# Altium footprint library Footprints.PcbLib: 25 footprints (part 2 of 2)
Each footprint in its own frame and in the unit in brackets; x right, y up, seen from the top. Pads: shape width x height; smd on the part's side, far side on the other; paste and mask are expansions set on the pad; w line width, h text height; cw(c..) or ccw(c..) is an arc to the next point about the centre after c.
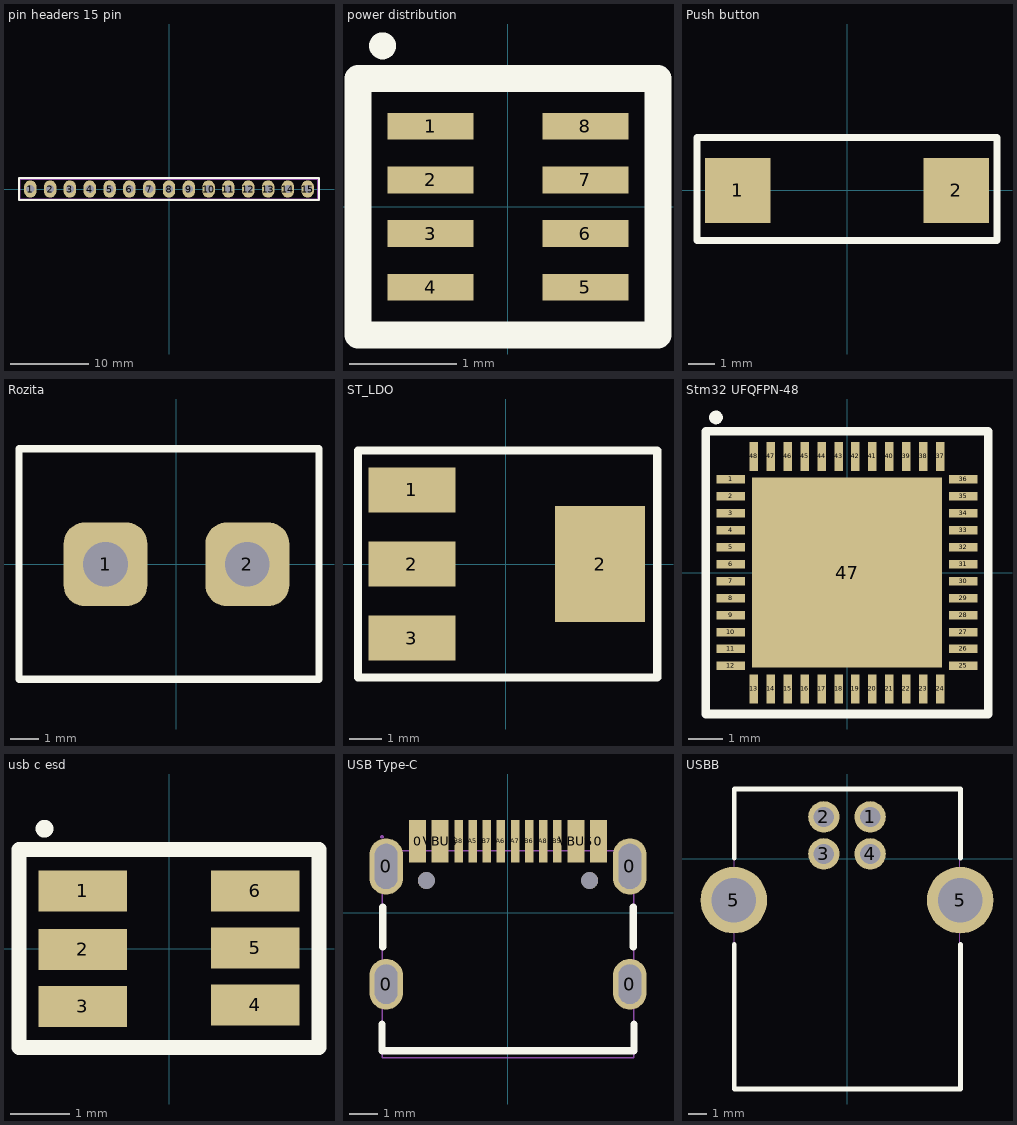
[diagram p1: the footprints below, top view; thin cyan lines are the x and y axes]

## pin headers 15 pin [mm]
pads (15):
  oval 1.6x2.2 hole 1.05 paste-2539.97 mask+0.05: 1(-17.78,0) 2(-15.24,0) 3(-12.7,0) 4(-10.16,0) 5(-7.62,0) 6(-5.08,0) 7(-2.54,0) 8(0,0) 9(2.54,0) 10(5.08,0) 11(7.62,0) 12(10.16,0) 13(12.7,0) 14(15.24,0) 15(17.78,0)
Top Overlay:
  lines w0.254: -19.228,-1.422 19.228,-1.422 19.228,1.422 -19.228,1.422 -19.228,-1.422
Mechanical 15:
  lines w0.051: -19.05,-1.25 -19.05,1.25 19.05,1.25 19.05,-1.25 -19.05,-1.25
Mechanical 29:
  text ".Designator" at -10.596,-0.75 h2
3D body "Pin Header 1x15 TH Pitch 2.54mm.stp": height 9.5, standoff -3.2, extent -19.05,-1.27 19.05,1.27

## power distribution [mm] "1.6V~5.5V 42mO 2.5A 1 SOT-583 Power Distribution Switches ROHS"
pads (8):
  rect 0.8x0.25 smd: 1(-0.72,0.75) 2(-0.72,0.25) 3(-0.72,-0.25) 4(-0.72,-0.75) 5(0.72,-0.75) 6(0.72,-0.25) 7(0.72,0.25) 8(0.72,0.75)
Top Overlay:
  circle w0.2: c-1.168,1.499 r0.025
  lines w0.254: -1.397,-1.194 -1.397,1.194 1.397,1.194 1.397,-1.194 -1.397,-1.194
Mechanical 29:
  text ".Designator" at -0.992,-0.037 h0.2
3D body "TPS2116DRLR.step": height 0.6, standoff 0, extent -0.851,-1.05 0.749,1.05

## Push button [mm]
pads (2):
  rect 2.5x2.5 smd: 1(-4.2,0) 2(4.2,0)
Top Overlay:
  lines w0.254: -5.766,-1.93 5.766,-1.93 5.766,2.032 -5.766,2.032 -5.766,-1.93
Mechanical 15:
  region: 3.5,-0.35 3.5,0.35 4,0.35 4,-0.35
  region: -3.51,-0.35 -3.51,0.35 -3.04,0.35 -3.04,-0.35
Mechanical 29:
  text ".Designator" at -5.08,-0.423 h1.02
3D body "User Library-SWT-39.step": height 2.5, standoff 0, extent -4.076,-1.803 3.924,1.897

## Rozita [mm]
pads (2):
  rrect50% 3x3 hole 1.6: 1(-2.54,0) 2(2.54,0)
Top Overlay:
  lines w0.254: -5.639,-4.115 -5.639,4.14 5.105,4.14 5.105,-4.115 -5.639,-4.115
Mechanical 29:
  text ".Designator" at -5.867,-0.116 h1.1
3D body "pxc_1729128_09_01_MKDSN-1-5-2-5-08_3D.stp": height 9.97, standoff -3.5, extent -5.616,-4.061 5.108,4.089

## ST_LDO [mm] "SOT223, 4-Leads, Body 6.50x7.00mm (avg), Pitch 2.30mm, IPC Medium Density"
height 1.8
pads (4):
  rect 2.7x1.4 smd: 1(-2.925,2.3) 2(-2.925,0) 3(-2.925,-2.3)
  rect 2.8x3.6 smd: 2(2.925,0)
Top Overlay:
  lines w0.254: -4.597,-3.531 4.699,-3.531 4.699,3.531 -4.597,3.531 -4.597,-3.531
Mechanical 29:
  text ".Designator" at -3.429,-0.326 h0.7
3D body "SOT-223_STM.step": height 1.81, standoff 0, extent -3.518,-3.353 3.772,3.353

## Stm32 UFQFPN-48 [mm] "QFN, 48-Leads, Body 7.00x7.00mm, Pitch 0.50mm, Thermal Pad 5.60x5.60mm, IPC Medium Density"
height 0.6
pads (49):
  rect 0.85x0.25 smd paste-2539.97: 1(-3.425,2.75) 2(-3.425,2.25) 3(-3.425,1.75) 4(-3.425,1.25) 5(-3.425,0.75) 6(-3.425,0.25) 7(-3.425,-0.25) 8(-3.425,-0.75) 9(-3.425,-1.25) 10(-3.425,-1.75) 11(-3.425,-2.25) 12(-3.425,-2.75) 25(3.425,-2.75) 26(3.425,-2.25) 27(3.425,-1.75) 28(3.425,-1.25) 29(3.425,-0.75) 30(3.425,-0.25) 31(3.425,0.25) 32(3.425,0.75) 33(3.425,1.25) 34(3.425,1.75) 35(3.425,2.25) 36(3.425,2.75)
  rect 0.25x0.85 smd paste-2539.97: 13(-2.75,-3.425) 14(-2.25,-3.425) 15(-1.75,-3.425) 16(-1.25,-3.425) 17(-0.75,-3.425) 18(-0.25,-3.425) 19(0.25,-3.425) 20(0.75,-3.425) 21(1.25,-3.425) 22(1.75,-3.425) 23(2.25,-3.425) 24(2.75,-3.425) 37(2.75,3.425) 38(2.25,3.425) 39(1.75,3.425) 40(1.25,3.425) 41(0.75,3.425) 42(0.25,3.425) 43(-0.25,3.425) 44(-0.75,3.425) 45(-1.25,3.425) 46(-1.75,3.425) 47(-2.25,3.425) 48(-2.75,3.425)
  rect 5.6x5.6 smd: 47(0,0)
Top Overlay:
  circle w0.2: c-3.861,4.572 r0.102
  lines w0.254: -4.166,-4.166 4.166,-4.166 4.166,4.166 -4.166,4.166 -4.166,-4.166
Top Paste:
  drawing of 48 lines, arcs and shapes, not listed
Top Solder:
  drawing of 48 lines, arcs and shapes, not listed
Mechanical 29:
  text ".Designator" at -3.429,-0.021 h0.7
3D body: height 0.6, standoff 0.05, extent -3.55,-3.55 3.55,3.55

## usb c esd [mm]
pads (6):
  rect 1.5x0.7 smd: 1(-1.46,0.978) 2(-1.46,-0.013) 3(-1.46,-0.978) 4(1.46,-0.953) 5(1.46,0.013) 6(1.46,0.978)
Top Overlay:
  circle w0.25: c-2.108,2.032 r0.025
  lines w0.254: -2.54,-1.676 2.54,-1.676 2.54,1.676 -2.54,1.676 -2.54,-1.676
Mechanical 29:
  text ".Designator" at -1.841,-0.14 h0.38
3D body "SOT23-6L_STM.step": height 1.45, standoff 0, extent -1.499,-1.524 1.499,1.524

## USB Type-C [mm] "5A 1 16P Female Type-C SMD USB Connectors ROHS"
pads (18):
  oval 1.2x1.8 hole 0.8 slot 1.4 at 90 deg: 0(-4.325,-2.539) 0(4.325,-2.539)
  oval 1.2x2 hole 0.8 slot 1.6 at 90 deg: 0(-4.325,1.641) 0(4.325,1.641)
  rect 0.6x1.5 smd paste-100: 0(-3.21,2.539) 0(3.21,2.539) VBUS(-2.41,2.539) VBUS(2.41,2.539)
  rect 0.3x1.5 smd paste-100: A5(-1.25,2.539) A6(-0.25,2.539) A7(0.25,2.539) A8(1.25,2.539) B5(1.75,2.539) B6(0.75,2.539) B7(-0.75,2.539) B8(-1.75,2.539)
  round 0.6 hole 0.6: ""(-2.9,1.141) ""(2.9,1.141)
Top Overlay:
  lines w0.254: -4.47,-3.962 -4.47,-4.902 4.47,-4.902 4.47,-3.962 ; -4.445,-1.219 -4.445,0.203 ; 4.445,-1.219 4.445,0.203
Top Paste:
  drawing of 16 lines, arcs and shapes, not listed
Mechanical 15:
  region: -4.415,2.692 -4.416,2.716 -4.451,2.749 -4.499,2.749 -4.534,2.716 -4.535,2.692 -4.534,2.668 -4.499,2.634 -4.451,2.634 -4.416,2.668
  region: 3.21,2.692 3.41,2.692 3.41,1.992 3.21,1.992
  region: 3.01,2.692 3.21,2.692 3.21,1.992 3.01,1.992
  region: 1.65,2.692 1.85,2.692 1.85,1.992 1.65,1.992
  region: 1.15,2.692 1.35,2.692 1.35,1.992 1.15,1.992
  region: 0.65,2.692 0.85,2.692 0.85,1.992 0.65,1.992
  region: 0.15,2.692 0.35,2.692 0.35,1.992 0.15,1.992
  region: -0.35,2.692 -0.15,2.692 -0.15,1.992 -0.35,1.992
  region: -0.85,2.692 -0.65,2.692 -0.65,1.992 -0.85,1.992
  region: -1.35,2.692 -1.15,2.692 -1.15,1.992 -1.35,1.992
  region: -1.85,2.692 -1.65,2.692 -1.65,1.992 -1.85,1.992
  region: 2.41,2.692 2.61,2.692 2.61,1.991 2.41,1.991
  region: 2.21,2.692 2.41,2.692 2.41,1.991 2.21,1.991
  region: -2.41,2.692 -2.21,2.692 -2.21,1.991 -2.41,1.991
  region: -2.61,2.692 -2.41,2.692 -2.41,1.991 -2.61,1.991
  region: -3.21,2.692 -3.01,2.692 -3.01,1.992 -3.21,1.992
  region: -3.41,2.692 -3.21,2.692 -3.21,1.992 -3.41,1.992
  lines w0.051: -4.47,-5.158 4.47,-5.158 4.47,2.192 -4.47,2.192 -4.47,-5.158
Mechanical 29:
  text ".Designator" at -3.81,-1.817 h0.76
3D body "HRO_TYPE-C-31-M-12.step": height 3.24, standoff -0.96, extent -4.475,-5.069 4.475,2.831

## USBB [mm]
pads (6):
  round 1.7 hole 1.1 copper offset 0,0: 1(1.25,2.25) 2(-1.25,2.25) 3(-1.25,0.25) 4(1.25,0.25)
  round 3.6 hole 2.4: 5(-6.116,-2.25) 5(6.116,-2.25)
Top Overlay:
  lines w0.254: -6.096,-4.623 -6.096,-12.446 6.096,-12.446 ; -6.096,0.025 -6.096,3.759 6.096,3.759 ; 6.137,-12.446 6.137,-4.623 ; 6.137,0.025 6.137,3.759
Mechanical 15:
  region: -1.55,2.4 -0.95,2.4 -0.95,2.1 -1.55,2.1
  region: 0.95,2.4 1.55,2.4 1.55,2.1 0.95,2.1
  region: 0.95,0.4 1.55,0.4 1.55,0.1 0.95,0.1
  region: -1.55,0.4 -0.95,0.4 -0.95,0.1 -1.55,0.1
  region: 5.966,-3 5.966,-1.5 6.266,-1.5 6.266,-3
  region: -5.966,-1.5 -5.966,-3 -6.266,-3 -6.266,-1.5
  region: 7.216,-3 5.966,-3 5.966,-1.5 7.216,-1.5
  region: -7.216,-1.5 -5.966,-1.5 -5.966,-3 -7.216,-3
  lines w0.051: -6.1,-12.45 -6.1,3.75 6.1,3.75 6.1,-12.45 -6.1,-12.45
Mechanical 29:
  text ".Designator" at -5.258,-5.453 h1.02
3D body "usb-b-s-f-b-th.stp": height 10.7, standoff -3.74, extent -7.239,-12.644 7.262,3.856